# Altium integrated library FC1-10-X2-XX--Symbol-Altium-44987.IntLib: 1 symbol
Pins are listed as number, name and electrical type; pins without a type are passive.

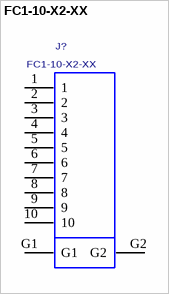
[diagram p0: symbol FC1-10-X2-XX]

## FC1-10-X2-XX
designator J?
1MM SOCKET, HORIZONTAL.; MANUFACTURER: SAMTEC; CREATED BY: December 22, 2015 - Wendy Xin; PCB DECAL: FC1-10-X2-XX
footprint FC1-10-X2-XX
pins: 1, 2, 3, 4, 5, 6, 7, 8, 9, 10, G1, G2